# EAGLE library part MICRO-USB-AB-TYPE-180(ST-USB-001L5) (library OPL-Connector)
320010009
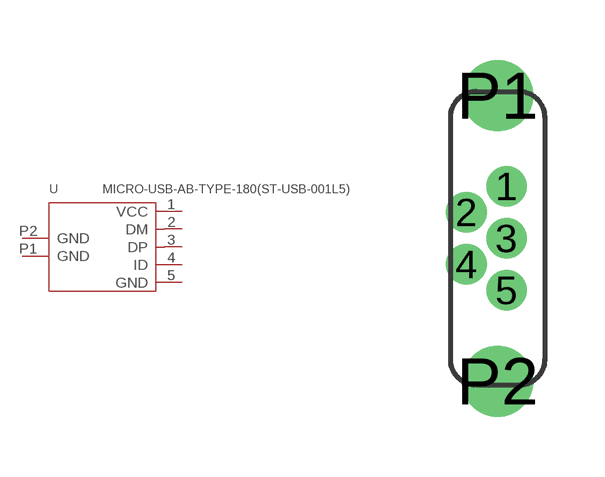
[diagram p79: symbol with the pads of MICRO-USB5+2P-0.65-180D; footprint MICRO-USB5+2P-0.65-180D]

Designator prefix -

## MICRO-USB-AB-TYPE-180(ST-USB-001L5) (MPN: ST-USB-001L5)  [MICRO-USB5+2P-0.65-180D]
1  VCC
2  DM
3  DP
4  ID
5  GND
P1  GND
P2  GND

## Footprint MICRO-USB5+2P-0.65-180D (pad centres in mm)
drill 0.508 pad 0.889: 1 0,1.3; 2 -1,0.65; 3 0,0; 4 -1,-0.65; 5 0,-1.3
drill 1.016 pad 1.778: P1 -0.22,3.575; P2 -0.22,-3.575